# Altium footprint library TS3USB221.PcbLib: 1 footprints
Each footprint in its own frame and in the unit in brackets; x right, y up, seen from the top. Pads: shape width x height; smd on the part's side, far side on the other; paste and mask are expansions set on the pad; w line width, h text height; cw(c..) or ccw(c..) is an arc to the next point about the centre after c.
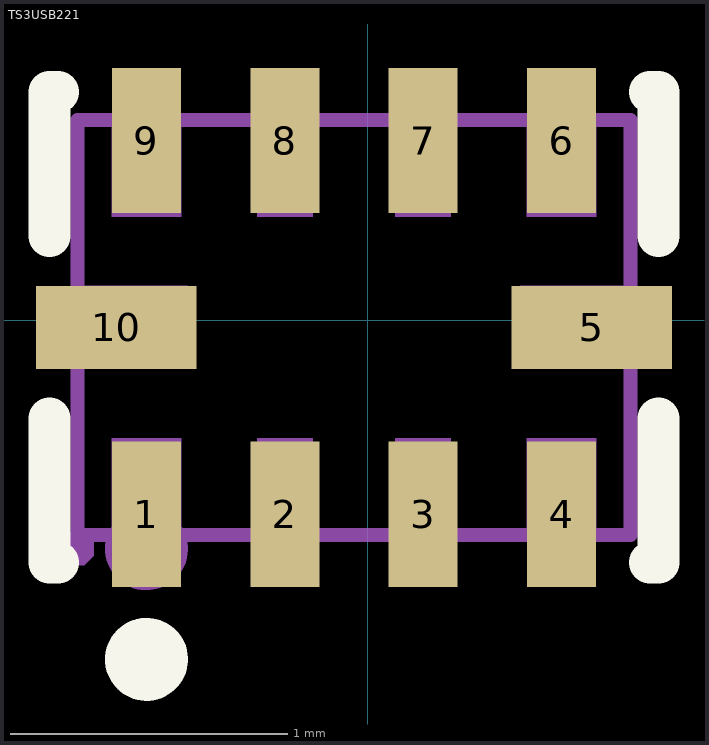
[diagram p0: the footprint, top view; thin cyan lines are the x and y axes]

## TS3USB221 [mm]
height 0.55
pads (10):
  rect 0.25x0.525 smd paste+0 mask+0.051: 1(-0.8,-0.7) 2(-0.3,-0.7) 3(0.2,-0.7) 4(0.7,-0.7) 6(0.7,0.65) 7(0.2,0.65) 8(-0.3,0.65) 9(-0.8,0.65)
  rect 0.58x0.3 smd paste+0 mask+0.051: 5(0.81,-0.025) 10(-0.91,-0.025)
Top Overlay:
  circle w0.15: c-0.8,-1.225 r0.075
  lines w0.152: -1.15,-0.355 -1.15,-0.875 -1.12,-0.875 ; -1.15,0.305 -1.15,0.825 -1.12,0.825 ; 1.02,-0.875 1.05,-0.875 1.05,-0.355 ; 1.02,0.825 1.05,0.825 1.05,0.305
Top Assembly:
  text "'.Designator'" at -0.025,0 h0.7
Mechanical 6:
  circle w0.15: c-0.8,-0.825 r0.075
Mechanical 15:
  region: -1.05,0.125 -0.65,0.125 -0.65,-0.175 -1.05,-0.175
  region: 0.55,0.125 0.95,0.125 0.95,-0.175 0.55,-0.175
  region: 0.575,0.725 0.825,0.725 0.825,0.375 0.575,0.375
  region: -0.925,0.725 -0.675,0.725 -0.675,0.375 -0.925,0.375
  region: -0.925,-0.425 -0.675,-0.425 -0.675,-0.775 -0.925,-0.775
  region: 0.575,-0.425 0.825,-0.425 0.825,-0.775 0.575,-0.775
  region: -0.4,-0.425 -0.2,-0.425 -0.2,-0.775 -0.4,-0.775
  region: 0.1,-0.425 0.3,-0.425 0.3,-0.775 0.1,-0.775
  region: 0.1,0.725 0.3,0.725 0.3,0.375 0.1,0.375
  region: -0.4,0.725 -0.2,0.725 -0.2,0.375 -0.4,0.375
  region: -0.99,-0.825 -0.99,-0.8 -1.025,-0.765 -1.075,-0.765 -1.11,-0.8 -1.11,-0.825 -1.11,-0.85 -1.075,-0.885 -1.025,-0.885 -0.99,-0.85 -0.99,-0.825
  lines w0.051: -1.05,-0.775 0.95,-0.775 0.95,0.725 -1.05,0.725 -1.05,-0.775
3D body "User Library-10-UQFN_1_50x2_00x0_5_0_5mm_pitch.STEP": height 0.5, standoff 0, extent -1.05,-0.775 0.95,0.725